# EAGLE library part R-ARRAY-4 (library FansElectronics-RCL)
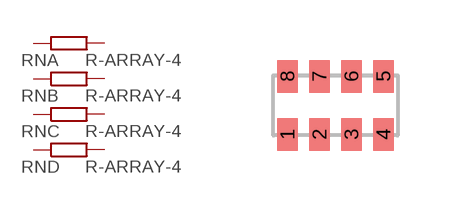
[diagram p0: symbol with the pads of ARRAY-4-0603; footprint ARRAY-4-0603]

Designator prefix RN; gates A=R-N B=R-N C=R-N D=R-N

## R-ARRAY-4-SMD0603  [ARRAY-4-0603]
1  A:1  pas
2  B:1  pas
3  C:1  pas
4  D:1  pas
5  D:2  pas
6  C:2  pas
7  B:2  pas
8  A:2  pas

## Footprint ARRAY-4-0603 (pad centres in mm)
smd 0.508 x 0.813: 1 -1.2,-0.725; 2 -0.4,-0.725; 3 0.4,-0.725; 4 1.2,-0.725; 5 1.2,0.725; 6 0.4,0.725; 7 -0.4,0.725; 8 -1.2,0.725